# Altium footprint library Passives.PcbLib: 27 footprints (part 1 of 2)
Each footprint in its own frame and in the unit in brackets; x right, y up, seen from the top. Pads: shape width x height; smd on the part's side, far side on the other; paste and mask are expansions set on the pad; w line width, h text height; cw(c..) or ccw(c..) is an arc to the next point about the centre after c.
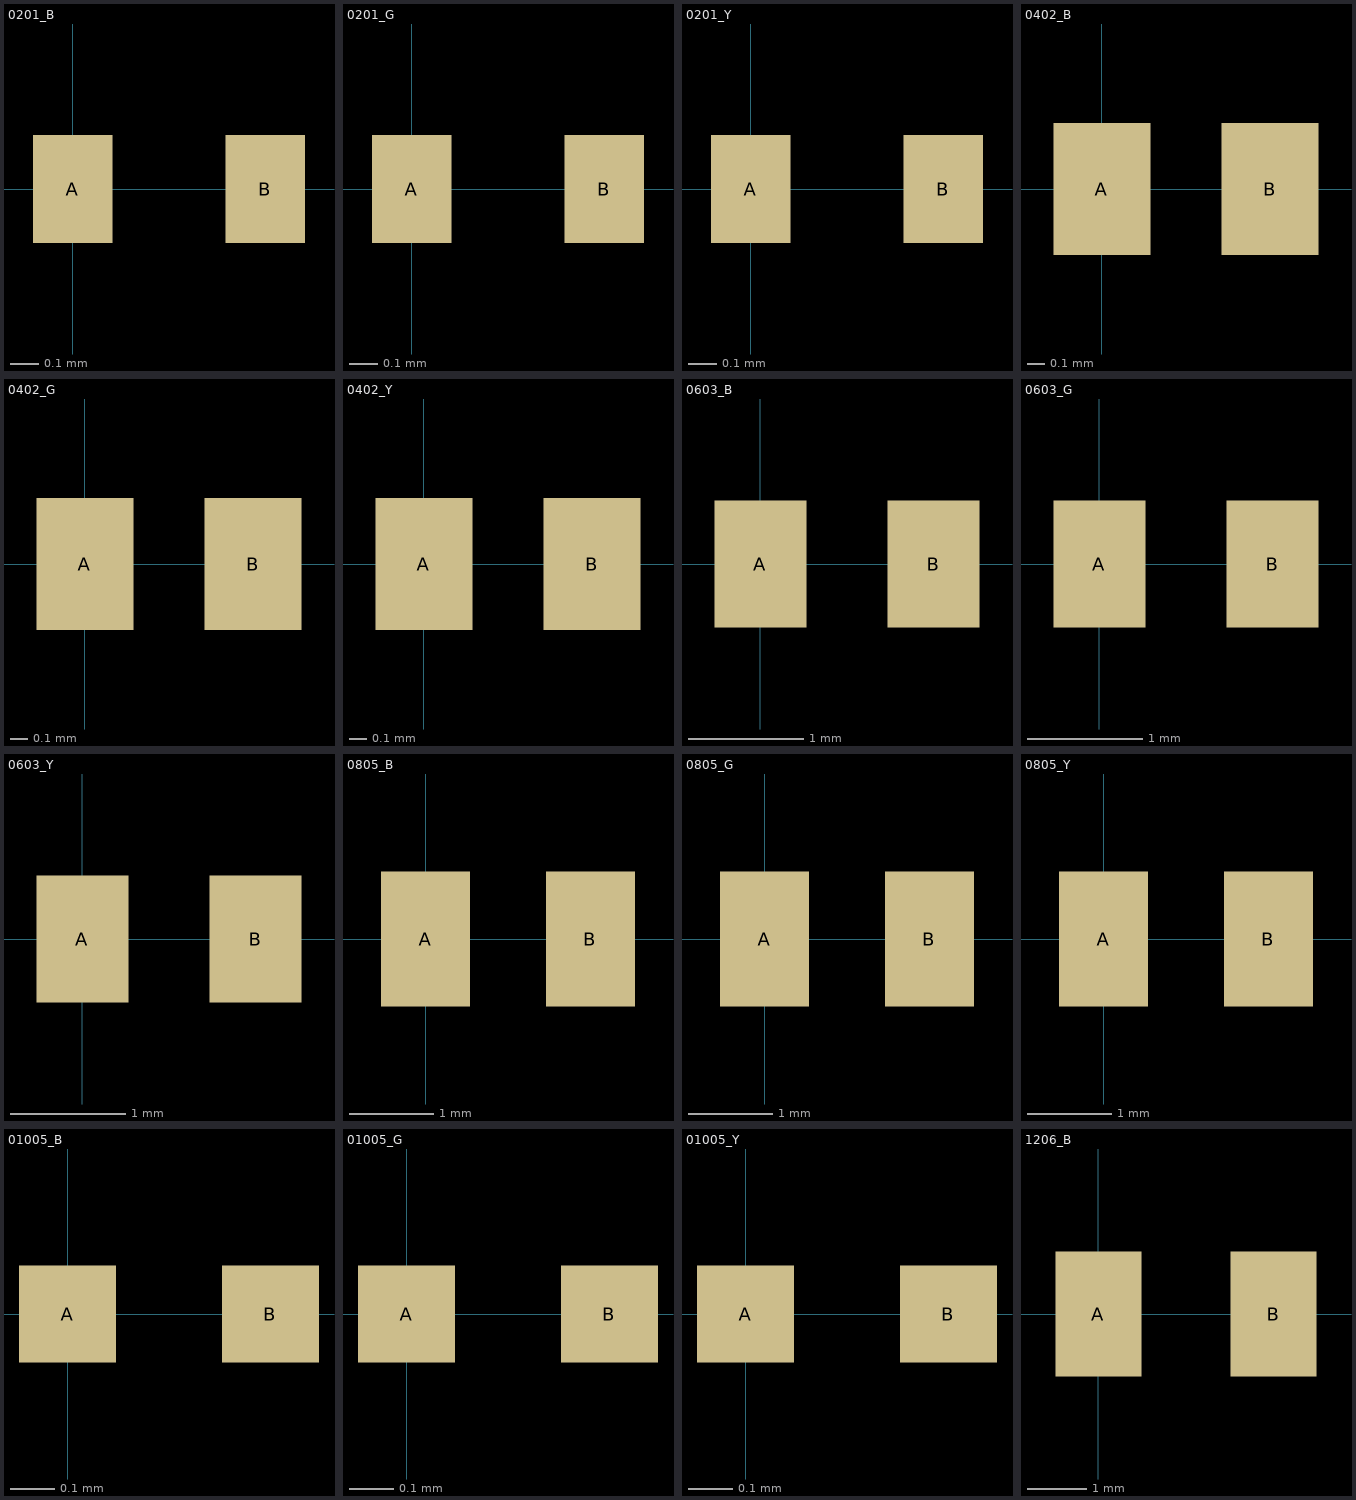
[diagram p0: the footprints below, top view; thin cyan lines are the x and y axes]

## 0201_B [mm]
pads (2):
  rect 0.28x0.38 smd: A(0,0) B(0.68,0)
3D body "0201_black.step": height 0.3, standoff 0, extent 0.045,-0.17 0.645,0.18

## 0201_G [mm]
pads (2):
  rect 0.28x0.38 smd: A(0,0) B(0.68,0)
3D body "0201_grey.step": height 0.3, standoff 0, extent 0.05,-0.17 0.65,0.18

## 0201_Y [mm]
pads (2):
  rect 0.28x0.38 smd: A(0,0) B(0.68,0)
3D body "0201_yellow.step": height 0.3, standoff 0, extent 0.03,-0.17 0.63,0.18

## 0402_B [mm]
pads (2):
  rect 0.55x0.745 smd: A(0,0) B(0.95,0)
3D body "0402_black.step": height 0.45, standoff 0, extent -0.03,-0.244 0.97,0.256

## 0402_G [mm]
pads (2):
  rect 0.55x0.745 smd: A(0,0) B(0.95,0)
3D body "0402_grey.step": height 0.45, standoff 0, extent -0.03,-0.244 0.97,0.256

## 0402_Y [mm]
pads (2):
  rect 0.55x0.745 smd: A(0,0) B(0.95,0)
3D body "0402_yellow.step": height 0.45, standoff 0, extent -0.03,-0.244 0.97,0.256

## 0603_B [mm]
pads (2):
  rect 0.8x1.1 smd: A(0,0) B(1.5,0)
3D body "0603_black.step": height 0.45, standoff 0, extent -0.03,-0.4 1.57,0.4

## 0603_G [mm]
pads (2):
  rect 0.8x1.1 smd: A(0,0) B(1.5,0)
3D body "0603_grey.step": height 0.45, standoff 0, extent -0.06,-0.4 1.54,0.4

## 0603_Y [mm]
pads (2):
  rect 0.8x1.1 smd: A(0,0) B(1.5,0)
3D body "0603_yellow.step": height 0.45, standoff 0, extent -0.03,-0.4 1.57,0.4

## 0805_B [mm]
pads (2):
  rect 1.05x1.6 smd: A(0,0) B(1.95,0)
3D body "0805_black.step": height 0.55, standoff 0, extent 0,-0.61 2,0.59

## 0805_G [mm]
pads (2):
  rect 1.05x1.6 smd: A(0,0) B(1.95,0)
3D body "0805_grey.step": height 0.55, standoff 0, extent 0,-0.61 2,0.59

## 0805_Y [mm]
pads (2):
  rect 1.05x1.6 smd: A(0,0) B(1.95,0)
3D body "0805_yellow.step": height 0.55, standoff 0, extent -0.03,-0.61 1.97,0.59

## 01005_B [mm]
pads (2):
  rect 0.22x0.22 smd: A(0,0) B(0.46,0)
3D body "01005_black.step": height 0.2, standoff 0, extent 0.03,-0.128 0.43,0.122

## 01005_G [mm]
pads (2):
  rect 0.22x0.22 smd: A(0,0) B(0.46,0)
3D body "01005_grey.step": height 0.2, standoff 0, extent 0.03,-0.128 0.43,0.122

## 01005_Y [mm]
pads (2):
  rect 0.22x0.22 smd: A(0,0) B(0.46,0)
3D body "01005_yellow.step": height 0.2, standoff 0, extent 0.03,-0.128 0.43,0.122

## 1206_B [mm]
pads (2):
  rect 1.45x2.1 smd: A(0,0) B(2.95,0)
3D body "1206_black.step": height 0.55, standoff 0, extent -0.1,-0.75 3.1,0.85